# Altium integrated library 1SMB5919BT3G.IntLib: 1 symbol
Pins are listed as number, name and electrical type; pins without a type are passive.

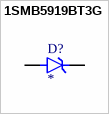
[diagram p0: symbol 1SMB5919BT3G]

## 1SMB5919BT3G
designator D?
Zener Diode 5.6 V 3 W Â±5% Surface Mount SMB; MP: 1SMB5919BT3G; MF: ON Semiconductor; SnapEDA_Link: https://www.snapeda.com/parts/1SMB5919BT3G/Onsemi/view-part/?ref=snap; Package: SMB-2 ON Semiconductor; Check_prices: https://www.snapeda.com/parts/1SMB5919BT3G/Onsemi/view-part/?ref=eda; Purchase-URL: https://pricing.snapeda.com/search/part/1SMB5919BT3G/?ref=eda; Digi-Key_Part_Number: 1SMB5919BT3GOSTR-ND; Value: *
footprint DIOM5436X247N
pins: A, C K